# Altium schematic symbol library loom-top.SchLib: 2 symbols
Pins are listed as number, name and electrical type; pins without a type are passive.

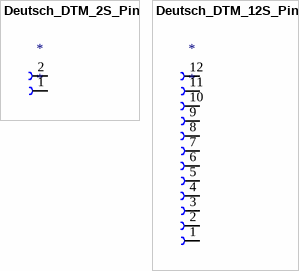
[diagram p0: symbols Deutsch_DTM_2S_Pin to Deutsch_DTM_12S_Pin]

## Deutsch_DTM_2S_Pin
designator *
pins: 1, 2

## Deutsch_DTM_12S_Pin
designator *
pins: 1, 2, 3, 4, 5, 6, 7, 8, 9, 10, 11, 12